# Altium schematic symbol library MICROSMD110F-2.SchLib: 1 symbol
Pins are listed as number, name and electrical type; pins without a type are passive.

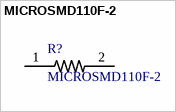
[diagram p0: symbol MICROSMD110F-2]

## MICROSMD110F-2
designator R?
/ Polymeric PTC Resettable Fuse 6V 1.1A Ih Surface Mount 1210 _3225 Metric_, Concave /; MF: Littelfuse Inc.; Digi-Key_Part_Number: MICROSMD110F-2CT-ND; Package: 1210 TE Connectivity; MP: MICROSMD110F-2; Digi-Key_Purchase_URL: https://www.digikey.com/product-detail/en/littelfuse-inc/MICROSMD110F-2/MICROSMD110F-2CT-ND/1045843?utm_source=snapeda&utm_medium=aggregator&utm_campaign=symbol; SnapEDA_Link: https://www.snapeda.com/parts/MICROSMD110F-2/Littelfuse%20Inc./view-part/1314487/?ref=snap; Value: *
footprint *RESC3125X65N
pins: 1, 2